# Altium footprint library SOT223.PcbLib: 1 footprints
Each footprint in its own frame and in the unit in brackets; x right, y up, seen from the top. Pads: shape width x height; smd on the part's side, far side on the other; paste and mask are expansions set on the pad; w line width, h text height; cw(c..) or ccw(c..) is an arc to the next point about the centre after c.
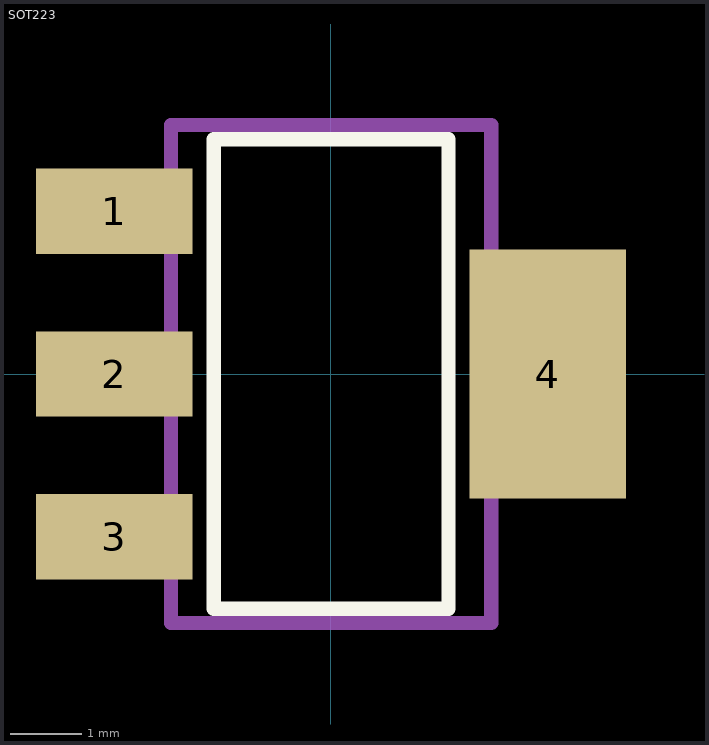
[diagram p0: the footprint, top view; thin cyan lines are the x and y axes]

## SOT223 [mil]
pads (4):
  rect 86.6x47.24 smd: 1(-120,90) 2(-120,0) 3(-120,-90)
  rect 86.6x137.8 smd: 4(120,0)
Top Overlay:
  lines w7.87: -64.8,-129.92 -64.8,129.92 65.12,129.92 65.12,-129.92 -64.8,-129.92
TopAssy:
  lines w7.87: -108.11,-106.3 -108.11,-74.8 ; -108.11,-15.75 -108.11,15.75 ; -108.11,74.8 -108.11,106.3 ; -88.43,-106.3 -127.8,-106.3 -127.8,-74.8 -88.43,-74.8 ; -88.43,-15.75 -127.8,-15.75 -127.8,15.75 -88.43,15.75 ; -88.43,74.8 -127.8,74.8 -127.8,106.3 -88.43,106.3 ; 88.74,-51.18 128.11,-51.18 128.11,51.18 88.74,51.18 ; 108.43,-51.18 108.43,51.18 ; -88.43,-137.8 -88.43,137.8 88.74,137.8 88.74,-137.8 -88.43,-137.8
3D body "SW3dPS-SOT-223-1.STEP": height 64.57, standoff -0.39, extent -137.8,-127.95 137.8,127.95